# Altium schematic symbol library Inverting buck boost.SchLib: 104 symbols (part 4 of 9)
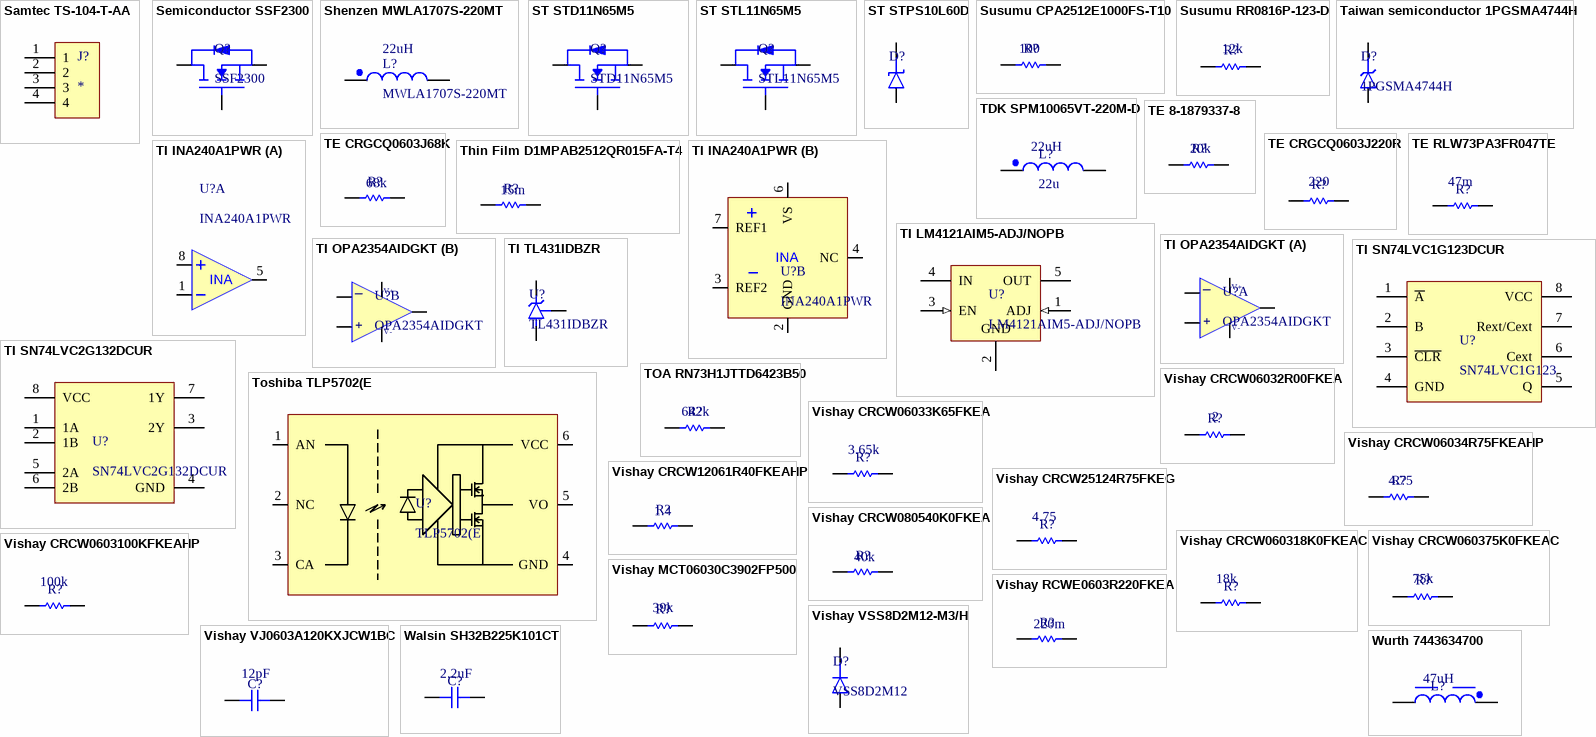
[diagram p5: symbols Samtec TS-104-T-AA to Wurth 7443634700]

## Semiconductor SSF2300
designator Q?, comment SSF2300
Res Thick Film 0603 10 Ohm 1% 0.1W(1/10W) ±200ppm/C Pad SMD T/R; Manufacturer: Yageo Group; Manufacturer Part Number: RC0603FR-0710RL; Power Rating: 100mW; Value: 10Ω; Temperature Coefficient: 200ppm/°C; Voltage Rating: 50V; Working Voltage: 75V; Supplier: DigiKey; Supplier Part Number: 311-10.0HRDKR-ND; RoHS: Compliant; Category: Chip SMD Resistors; Stock: 1344633; Pricing: 1=0,1, 10=0,037, 25=0,0276, 50=0,0226, 100=0,0187, 250=0,01476, 500=0,0125, 1000=0,01075 (USD); Case/Package: 0603; Case Code (Imperial): 0603; Case Code (Metric): 0603; China RoHS: Non-Compliant; Composition: Thick Film; Contact Plating: Tin; Country of Origin: Mainland China, Taiwan; Depth: 800µm; Export Control Classification Number (ECCN) Code: EAR99; Height: 450µm; Harmonized Tariff Schedule (HTS) Code: 8533.21.00.30; Introduction Date: 2004-09-22; Lead Free: Lead Free; Length: 1.6mm; Lifecycle Status: Production; Max Operating Temperature: 155°C; Military Standard: Not; Min Operating Temperature: -55°C; Mounting Technology: Surface Mount; Pins: 2; Number of Terminals: 2; Packaging: Tape and Reel; Radiation Hardening: No; REACH SVHC: Yes; Schedule B: 8533210045, 8533210045|8533210045|8533210045|8533210045|8533210045|8533210045|8533210045|8533210045|8533210045|8533210045|8533210045|8533210045|8533210045|8533210045|8533210045|8533210045|8533210045|8533210045|8533210045|8533210045|8533210045|8533210045|8533210045|85; Termination: SMD/SMT; Tolerance: 1%; Voltage Rating (AC): 50V; Voltage Rating (DC): 50V; Width: 800µm; ComponentLink1URL: https://datasheet.octopart.com:443/RC0603FR-0710RL-Yageo-datasheet-175887523.pdf?src-supplier=IHS; ComponentLink1Description: https://datasheet.octopart.com:443/RC0603FR-0710RL-Yageo-datasheet-175887523.pdf?src-supplier=IHS; ComponentLink2URL: https://datasheet.octopart.com:443/RC0603FR-0710RL-Yageo-datasheet-62067350.pdf?src-supplier=Farnell; ComponentLink2Description: https://datasheet.octopart.com:443/RC0603FR-0710RL-Yageo-datasheet-62067350.pdf?src-supplier=Farnell; ComponentLink3URL: https://datasheet.octopart.com:443/RC0603FR-0710RL-Yageo-datasheet-13691069.pdf?src-supplier=Farnell; ComponentLink3Description: https://datasheet.octopart.com:443/RC0603FR-0710RL-Yageo-datasheet-13691069.pdf?src-supplier=Farnell; ComponentLink4URL: https://datasheet.octopart.com:443/RC0603FR-0710RL-Yageo-datasheet-103092701.pdf?src-supplier=Upverter; ComponentLink4Description: https://datasheet.octopart.com:443/RC0603FR-0710RL-Yageo-datasheet-103092701.pdf?src-supplier=Upverter; ComponentLink5URL: https://datasheet.octopart.com:443/RC0603FR-0710RL-Yageo-datasheet-98239111.pdf?src-supplier=Upverter; ComponentLink5Description: https://datasheet.octopart.com:443/RC0603FR-0710RL-Yageo-datasheet-98239111.pdf?src-supplier=Upverter; ComponentLink6URL: https://datasheet.octopart.com:443/RC0603FR-0710RL-Yageo-datasheet-79472498.pdf?src-supplier=Upverter; ComponentLink6Description: https://datasheet.octopart.com:443/RC0603FR-0710RL-Yageo-datasheet-79472498.pdf?src-supplier=Upverter; ComponentLink7URL: https://datasheet.octopart.com:443/RC0603FR-0710RL-Yageo-datasheet-8328172.pdf?src-supplier=element14+APAC; ComponentLink7Description: https://datasheet.octopart.com:443/RC0603FR-0710RL-Yageo-datasheet-8328172.pdf?src-supplier=element14+APAC; ComponentLink8URL: https://datasheet.octopart.com:443/RC0603FR-0710RL-Yageo-Group-datasheet-176638170.pdf?src-supplier=Future+Electronics; ComponentLink8Description: https://datasheet.octopart.com:443/RC0603FR-0710RL-Yageo-Group-datasheet-176638170.pdf?src-supplier=Future+Electronics; ComponentLink9URL: https://datasheet.octopart.com:443/RC0603FR-0710RL-Yageo-datasheet-164759695.pdf?src-supplier=Future+Electronics; ComponentLink9Description: https://datasheet.octopart.com:443/RC0603FR-0710RL-Yageo-datasheet-164759695.pdf?src-supplier=Future+Electronics; ComponentLink10URL: https://datasheet.octopart.com:443/RC0603FR-0710RL-Yageo-datasheet-137700087.pdf?src-supplier=Future+Electronics; ComponentLink10Description: https://datasheet.octopart.com:443/RC0603FR-0710RL-Yageo-datasheet-137700087.pdf?src-supplier=Future+Electronics; ComponentLink11URL: https://datasheet.octopart.com:443/RC0603FR-0710RL-Yageo-datasheet-27584510.pdf?src-supplier=Future+Electronics; ComponentLink11Description: https://datasheet.octopart.com:443/RC0603FR-0710RL-Yageo-datasheet-27584510.pdf?src-supplier=Future+Electronics; ComponentLink12URL: https://datasheet.octopart.com:443/RC0603FR-0710RL-Yageo-datasheet-15599030.pdf?src-supplier=Future+Electronics; ComponentLink12Description: https://datasheet.octopart.com:443/RC0603FR-0710RL-Yageo-datasheet-15599030.pdf?src-supplier=Future+Electronics; ComponentLink13URL: https://datasheet.octopart.com:443/RC0603FR-0710RL-Yageo-datasheet-12596169.pdf?src-supplier=Future+Electronics; ComponentLink13Description: https://datasheet.octopart.com:443/RC0603FR-0710RL-Yageo-datasheet-12596169.pdf?src-supplier=Future+Electronics; ComponentLink14URL: https://datasheet.octopart.com:443/RC0603FR-0710RL-Yageo-datasheet-8324193.pdf?src-supplier=Future+Electronics; ComponentLink14Description: https://datasheet.octopart.com:443/RC0603FR-0710RL-Yageo-datasheet-8324193.pdf?src-supplier=Future+Electronics; ComponentLink15URL: https://datasheet.octopart.com:443/RC0603FR-0710RL-Yageo-datasheet-34211833.pdf?src-supplier=Newark; ComponentLink15Description: https://datasheet.octopart.com:443/RC0603FR-0710RL-Yageo-datasheet-34211833.pdf?src-supplier=Newark; ComponentLink16URL: https://datasheet.octopart.com/RC0603FR-0710RL-Yageo-datasheet-73766026.pdf; ComponentLink16Description: https://datasheet.octopart.com/RC0603FR-0710RL-Yageo-datasheet-73766026.pdf; ComponentLink17URL: https://datasheet.octopart.com:443/RC0603FR-0710RL-Yageo-datasheet-30459151.pdf?src-supplier=Seeed+Studio; ComponentLink17Description: https://datasheet.octopart.com:443/RC0603FR-0710RL-Yageo-datasheet-30459151.pdf?src-supplier=Seeed+Studio; ComponentLink18URL: https://datasheet.octopart.com:443/RC0603FR-0710RL-Yageo-datasheet-14181472.pdf?src-supplier=iiiC; ComponentLink18Description: https://datasheet.octopart.com:443/RC0603FR-0710RL-Yageo-datasheet-14181472.pdf?src-supplier=iiiC; ComponentLink19URL: https://datasheet.octopart.com:443/RC0603FR-0710RL-Yageo-datasheet-118562.pdf?src-supplier=DigiKey; ComponentLink19Description: https://datasheet.octopart.com:443/RC0603FR-0710RL-Yageo-datasheet-118562.pdf?src-supplier=DigiKey; ComponentLink20URL: http://sigma.octopart.com:80/rohs_statement/Yageo-company-2.pdf?src-supplier=Compliance+Statements; ComponentLink20Description: http://sigma.octopart.com:80/rohs_statement/Yageo-company-2.pdf?src-supplier=Compliance+Statements; ComponentLink21URL: http://sigma.octopart.com:80/conflict_mineral_statement/Yageo-company-3.pdf?src-supplier=Compliance+Statements; ComponentLink21Description: http://sigma.octopart.com:80/conflict_mineral_statement/Yageo-company-3.pdf?src-supplier=Compliance+Statements
footprint SOT-23-3
pins: 1 S, 2 G, 3 D

## Shenzen MWLA1707S-220MT
designator L?, comment MWLA1707S-220MT  Inductance: 22uH
General Purpose Inductor, 22uH, 20%, 1 Element, Wirewound-Core, SMD, 6967; Manufacturer: Sunlord; Max Current Rating: 7A; Number of Circuits: 1; Shielding: Shielded; Test Frequency: 100kHz; DC Resistance (DCR): 26.5mΩ; Supplier: DigiKey; Supplier Part Number: 3442-MWLA1707S-220MTCT-ND; Manufacturer Part Number: MWLA1707S-220MT; Category: Fixed Inductors; Stock: 255; Pricing: 1=1,94, 10=1,595, 100=1,3118 (USD); Height: 7mm; Length: 17.5mm; Lifecycle Status: Production; Max Operating Temperature: 125°C; Min Operating Temperature: -55°C; Number of Terminals: 2; Tolerance: 20%; Width: 17mm
footprint MWLA1707S
pins: 1, 2

## ST STD11N65M5
designator Q?, comment STD11N65M5
N-channel 650 V, 0.43 Ohm typ., 9 A MDmesh M5 Power MOSFET in DPAK package; Manufacturer: STMicroelectronics; Continuous Drain Current (ID): 9A; Drain to Source Breakdown Voltage: 650V; Drain to Source Resistance: 480mΩ; Element Configuration: Single; Gate to Source Voltage (Vgs): 25V; Input Capacitance: 620pF; Max Power Dissipation: 85W; Number of Elements: 1; Value: 480MΩ; Turn-Off Delay Time: 23ns; Supplier: Farnell; Supplier Part Number: STD11N65M5; Manufacturer Part Number: STD11N65M5; RoHS: Compliant; Category: MOSFETs; Stock: 694; Pricing: 100=1,32, 500=1,1, 1000=1,01 (EUR); Case/Package: DPAK; China RoHS: Compliant; Country of Origin: Mainland China; Drain to Source Voltage (Vdss): 650V; Export Control Classification Number (ECCN) Code: EAR99; Height: 2.4mm; Introduction Date: 2012-02-24; Lead Free: Lead Free; Length: 6.6mm; Lifecycle Status: Production; Max Operating Temperature: 150°C; Min Breakdown Voltage: 650V; Min Operating Temperature: -55°C; Mounting Technology: Surface Mount; Pins: 3; Number of Terminals: 2; Packaging: Tape and Reel; Power Dissipation: 85W; Radiation Hardening: No; Rds On Max: 480mΩ; REACH SVHC: Yes; Schedule B: 8541290080, 8541290080|8541290080|8541290080|8541290080|8541290080; Turn-On Delay Time: 23ns; Width: 6.2mm; ComponentLink1URL: https://datasheet.octopart.com:443/STD11N65M5-STMicroelectronics-datasheet-62335092.pdf?src-supplier=STMicroelectronics; ComponentLink1Description: https://datasheet.octopart.com:443/STD11N65M5-STMicroelectronics-datasheet-62335092.pdf?src-supplier=STMicroelectronics; ComponentLink2URL: https://datasheet.octopart.com:443/STD11N65M5-STMicroelectronics-datasheet-11780275.pdf?src-supplier=STMicroelectronics; ComponentLink2Description: https://datasheet.octopart.com:443/STD11N65M5-STMicroelectronics-datasheet-11780275.pdf?src-supplier=STMicroelectronics; ComponentLink3URL: https://datasheet.octopart.com:443/STD11N65M5-STMicroelectronics-datasheet-134531571.pdf?src-supplier=Future+Electronics; ComponentLink3Description: https://datasheet.octopart.com:443/STD11N65M5-STMicroelectronics-datasheet-134531571.pdf?src-supplier=Future+Electronics; ComponentLink4URL: https://datasheet.octopart.com:443/STD11N65M5-STMicroelectronics-datasheet-14897392.pdf?src-supplier=Components+Direct; ComponentLink4Description: https://datasheet.octopart.com:443/STD11N65M5-STMicroelectronics-datasheet-14897392.pdf?src-supplier=Components+Direct
footprint DPAK (1N65M5 STM)
pins: 1 G, 2 D, 3 S

## ST STL11N65M5
designator Q?, comment STL11N65M5
Supplier: Arrow Electronics; Supplier Part Number: STL11N65M5
footprint PowerFLAT™ 5x5
pins: 2 S, 5 D, 10 G

## ST STPS10L60D
designator D?, comment STPS10L60D  (value not drawn)
Rectifier Diode, Schottky, 1 Phase, 1 Element, 10A, 60V V(RRM), Silicon, TO-220AC; Manufacturer: STMicroelectronics; Element Configuration: Single; Forward Voltage: 740mV; Max Forward Surge Current (Ifsm): 220A; Max Junction Temperature (Tj): 150°C; Max Reverse Leakage Current: 350µA; Number of Elements: 1; Polarity: Standard; Supplier: Future Electronics; Supplier Part Number: STPS10L60D; Manufacturer Part Number: STPS10L60D; RoHS: Compliant; Category: Schottky Diodes; Stock: 200; Pricing: 100=0,22, 250=0,215, 1000=0,21, 2500=0,205, 6250=0,2 (USD); Average Rectified Current: 10A; Case/Package: TO-220-2; China RoHS: Non-Compliant; Contact Plating: Tin; Current Rating: 10A; Forward Current: 10A; Lead Free: Lead Free; Lifecycle Status: Production; Max Operating Temperature: 150°C; Max Output current: 10A; Max Repetitive Reverse Voltage (Vrrm): 60V; Max Reverse Voltage (DC): 60V; Max Surge Current: 220A; Min Operating Temperature: -65°C; Mounting Technology: Through Hole; Pins: 2; Number of Terminals: 2; Output Current: 10A; Peak Non-Repetitive Surge Current: 220A; Peak Reverse Current: 350µA; Radiation Hardening: No; REACH SVHC: No; Reverse Standoff Voltage: 60V; Voltage Rating (DC): 60V; ComponentLink1URL: https://datasheet.octopart.com:443/STPS10L60D-STMicroelectronics-datasheet-13237.pdf?src-supplier=Factory+Futures; ComponentLink1Description: https://datasheet.octopart.com:443/STPS10L60D-STMicroelectronics-datasheet-13237.pdf?src-supplier=Factory+Futures; ComponentLink2URL: https://datasheet.octopart.com:443/STPS10L60D-STMicroelectronics-datasheet-12545639.pdf?src-supplier=Newark; ComponentLink2Description: https://datasheet.octopart.com:443/STPS10L60D-STMicroelectronics-datasheet-12545639.pdf?src-supplier=Newark; ComponentLink3URL: https://datasheet.octopart.com:443/STPS10L60D-STMicroelectronics-datasheet-134532140.pdf?src-supplier=Newark; ComponentLink3Description: https://datasheet.octopart.com:443/STPS10L60D-STMicroelectronics-datasheet-134532140.pdf?src-supplier=Newark; ComponentLink4URL: https://datasheet.octopart.com:443/STPS10L60D-STMicroelectronics-datasheet-14054965.pdf?src-supplier=iiiC; ComponentLink4Description: https://datasheet.octopart.com:443/STPS10L60D-STMicroelectronics-datasheet-14054965.pdf?src-supplier=iiiC
footprint TO-220
pins: 1 K, 2 A

## Susumu CPA2512E1000FS-T10
designator R?, comment Resistance: 100  (hidden comment: CPA2512E1000FS-T10)
RES SMD 100 OHM 1% 16W 2512 / 100 Ohms ±1% 16W Chip Resistor 2512 (6432 Metric) Moisture Resistant Thin Film; Manufacturer: Susumu; Temperature Coefficient: 25ppm/°C; Supplier: DigiKey; Supplier Part Number: CPA25E100CT-ND; Manufacturer Part Number: CPA2512E1000FS-T10; RoHS: Compliant; Category: Chip SMD Resistors; Stock: 38476; Pricing: 1=2,16, 10=1,786, 25=1,6584, 50=1,57, 100=1,4894, 250=1,39452, 500=1,33128 (USD); Case/Package: 2512; Case Code (Imperial): 2512; Case Code (Metric): 6432; Composition: Thin Film; Country of Origin: Japan, Mainland China; Export Control Classification Number (ECCN) Code: EAR99; Features: Moisture Resistant; Height: 700µm; Introduction Date: 2008-09-12; Lead Free: Lead Free; Length: 6.3mm; Lifecycle Status: Production; Max Operating Temperature: 155°C; Max Power Dissipation: 16W; Min Operating Temperature: -55°C; Mounting Technology: Surface Mount; Number of Terminals: 2; Number of Terminations: 2; Packaging: Digi-Reel®; Power Rating: 16W; REACH SVHC: Yes; Tolerance: 1%; Width: 3.2mm; ComponentLink1URL: https://datasheet.octopart.com:443/CPA2512E1000FS-T10-Susumu-datasheet-113432870.pdf?src-supplier=IHS; ComponentLink1Description: https://datasheet.octopart.com:443/CPA2512E1000FS-T10-Susumu-datasheet-113432870.pdf?src-supplier=IHS; ComponentLink2URL: https://datasheet.octopart.com:443/CPA2512E1000FS-T10-Susumu-datasheet-17728680.pdf?src-supplier=Upverter; ComponentLink2Description: https://datasheet.octopart.com:443/CPA2512E1000FS-T10-Susumu-datasheet-17728680.pdf?src-supplier=Upverter; ComponentLink3URL: https://datasheet.octopart.com:443/CPA2512E1000FS-T10-Susumu-datasheet-12553808.pdf?src-supplier=Future+Electronics; ComponentLink3Description: https://datasheet.octopart.com:443/CPA2512E1000FS-T10-Susumu-datasheet-12553808.pdf?src-supplier=Future+Electronics
footprint res_2512
pins: 1, 2

## Susumu RR0816P-123-D
designator R?, comment Resistance: 12k  (hidden comment: RR0816P-123-D)
Fixed Resistor, Thin Film, 0.0625W, 12000ohm, 75V, 0.5% +/-Tol, 25ppm/Cel, Surface Mount, 0603; Manufacturer: Susumu; Power Rating: 62.5mW; Temperature Coefficient: 25ppm/°C; Supplier: Future Electronics; Supplier Part Number: RR0816P-123-D; Manufacturer Part Number: RR0816P-123-D; RoHS: Compliant; Category: Chip SMD Resistors; Stock: 30000; Pricing: 5000=0,0133, 15000=0,013, 25000=0,0129, 75000=0,0126, 125000=0,0123 (USD); Case/Package: 0603; Case Code (Imperial): 0603; Composition: Thin Film; Country of Origin: Japan; Depth: 800µm; Export Control Classification Number (ECCN) Code: EAR99; Height: 400µm; Harmonized Tariff Schedule (HTS) Code: 8533.21.00.30; Introduction Date: 2001-02-26; Lead Free: Lead Free; Length: 1.6mm; Lifecycle Status: NRND; Max Operating Temperature: 125°C; Min Operating Temperature: -55°C; Mounting Technology: Surface Mount; Pins: 2; Number of Terminals: 2; Packaging: Tape & Reel; REACH SVHC: No; Termination: SMD/SMT; Tolerance: 0.5%; Voltage Rating: 75V; Voltage Rating (DC): 75V; Width: 800µm; Working Voltage: 75V; ComponentLink1URL: https://datasheet.octopart.com:443/RR0816P-123-D-Susumu-datasheet-159770900.pdf?src-supplier=IHS; ComponentLink1Description: https://datasheet.octopart.com:443/RR0816P-123-D-Susumu-datasheet-159770900.pdf?src-supplier=IHS; ComponentLink2URL: https://datasheet.octopart.com:443/RR0816P-123-D-Susumu-datasheet-5302462.pdf?src-supplier=Newark; ComponentLink2Description: https://datasheet.octopart.com:443/RR0816P-123-D-Susumu-datasheet-5302462.pdf?src-supplier=Newark; ComponentLink3URL: https://datasheet.octopart.com:443/RR0816P-123-D-Susumu-datasheet-78834971.pdf?src-supplier=Newark; ComponentLink3Description: https://datasheet.octopart.com:443/RR0816P-123-D-Susumu-datasheet-78834971.pdf?src-supplier=Newark; ComponentLink4URL: https://datasheet.octopart.com:443/RR0816P-123-D-Susumu-datasheet-773.pdf?src-supplier=Newark; ComponentLink4Description: https://datasheet.octopart.com:443/RR0816P-123-D-Susumu-datasheet-773.pdf?src-supplier=Newark; ComponentLink5URL: https://datasheet.octopart.com:443/RR0816P-123-D-Susumu-datasheet-62069792.pdf?src-supplier=Future+Electronics; ComponentLink5Description: https://datasheet.octopart.com:443/RR0816P-123-D-Susumu-datasheet-62069792.pdf?src-supplier=Future+Electronics; ComponentLink6URL: https://datasheet.octopart.com:443/RR0816P-123-D-Susumu-datasheet-11047391.pdf?src-supplier=Future+Electronics; ComponentLink6Description: https://datasheet.octopart.com:443/RR0816P-123-D-Susumu-datasheet-11047391.pdf?src-supplier=Future+Electronics
footprint Res_0603
pins: 1, 2

## Taiwan semiconductor 1PGSMA4744H
designator D?, comment 1PGSMA4744H
Zener Diode, 15V V(Z), 5%, 1W, Silicon, Unidirectional, DO-214AC; Manufacturer: Taiwan Semiconductor; Impedance: 14Ω; Number of Elements: 1; Peak Reverse Current: 1µA; Reverse Standoff Voltage: 11.4V; Zener Current: 17mA; Supplier: DigiKey; Supplier Part Number: 1801-1PGSMA4744HTR-ND; Manufacturer Part Number: 1PGSMA4744H; RoHS: Compliant; Category: Zener Diodes; Stock: 7500; Pricing: 7500=0,09278, 15000=0,08793 (USD); China RoHS: Non-Compliant; Composition: Zener; Country of Origin: Mainland China, Taiwan; Export Control Classification Number (ECCN) Code: EAR99; Harmonized Tariff Schedule (HTS) Code: 8541.10.00.50; Introduction Date: 2021-03-02; Lifecycle Status: Production; Max Operating Temperature: 175°C; Max Power Dissipation: 1W; Min Operating Temperature: -55°C; Number of Terminals: 2; Polarity: Unidirectional; Ratings: AEC-Q101; REACH SVHC: No; Reference Voltage: 15V; Voltage Tolerance: 5%; ComponentLink1URL: https://datasheet.octopart.com:443/1PGSMA4744H-Taiwan-Semiconductor-datasheet-181255874.pdf?src-supplier=IHS; ComponentLink1Description: https://datasheet.octopart.com:443/1PGSMA4744H-Taiwan-Semiconductor-datasheet-181255874.pdf?src-supplier=IHS
footprint DO-214AC
pins: A, C

## TDK SPM10065VT-220M-D
designator L?, comment 22u  Inductance: 22uH
Inductances de puissance - CMS 22uH 20% 43.3mOhm AEC-Q200; Manufacturer: TDK; Manufacturer Part Number: SPM10065VT-220M-D
footprint ind (SPM10065VT-220M-D)
pins: 1, 2

## TE 8-1879337-8
designator R?, comment value 20k  (hidden comment: CPF0603F20KC1)
63mW Thin Film Resistor ±50ppm/℃ ±1% 20kΩ 0603 Chip Resistor - Surface Mount ROHS; Manufacturer: TE Connectivity; Manufacturer Part Number: 8-1879337-8; Manufacturer Lifecycle Status: ACTIVE; Number of Resistors: 1; Operating Supply Voltage: 50V; Temperature Coefficient: 50ppm/°C; Supplier: Farnell; Supplier Part Number: CPF0603F20KC1; RoHS: Compliant; Category: Chip SMD Resistors; Stock: 20337; Pricing: 1=0,0751, 50=0,0233, 100=0,0218, 250=0,0205, 500=0,0197, 1000=0,0184 (GBP); Case/Package: 0603; Case Code (Imperial): 0603; Case Code (Metric): 1608; China RoHS: Compliant; Composition: Thin Film; Depth: 800µm; Export Control Classification Number (ECCN) Code: EAR99; ELV: Compliant; Height: 450µm; Harmonized Tariff Schedule (HTS) Code: 8533.21.00.30; Introduction Date: 2011-07-28; Length: 1.55mm; Lifecycle Status: Production; Max Operating Temperature: 155°C; Max Power Dissipation: 63mW; Military Standard: Not; Min Operating Temperature: -55°C; Mounting Technology: Surface Mount; Pins: 2; Number of Terminals: 2; Number of Terminations: 2; Power Rating: 63mW; Radiation Hardening: No; REACH SVHC: Yes; Schedule B: 8533210045, 8533210045|8533210045, 8533210045|8533210045|8533210045, 8533210045|8533210045|8533210045|8533210045; Termination: Solder; Tolerance: 1%; Voltage Rating: 50V; Voltage Rating (DC): 50V; Weight: 2.012816mg; Width: 800µm; Working Voltage: 50V; ComponentLink1URL: https://datasheet.octopart.com:443/8-1879337-8-TE-Connectivity-datasheet-158231717.pdf?src-supplier=IHS; ComponentLink1Description: https://datasheet.octopart.com:443/8-1879337-8-TE-Connectivity-datasheet-158231717.pdf?src-supplier=IHS; ComponentLink2URL: https://datasheet.octopart.com:443/CPF0603F20KC1-Tyco-Electronics-datasheet-11120073.pdf?src-supplier=TE+Connectivity; ComponentLink2Description: https://datasheet.octopart.com:443/CPF0603F20KC1-Tyco-Electronics-datasheet-11120073.pdf?src-supplier=TE+Connectivity; ComponentLink3URL: https://datasheet.octopart.com:443/8-1879337-8-TE-Connectivity-datasheet-78339072.pdf?src-supplier=TE+Connectivity; ComponentLink3Description: https://datasheet.octopart.com:443/8-1879337-8-TE-Connectivity-datasheet-78339072.pdf?src-supplier=TE+Connectivity; ComponentLink4URL: https://datasheet.octopart.com:443/CPF0603F20KC1-Tyco-Electronics-datasheet-12510971.pdf?src-supplier=TE+Connectivity; ComponentLink4Description: https://datasheet.octopart.com:443/CPF0603F20KC1-Tyco-Electronics-datasheet-12510971.pdf?src-supplier=TE+Connectivity; ComponentLink5URL: https://datasheet.octopart.com:443/CPF0603F20KC1-Tyco-Electronics-datasheet-11120060.pdf?src-supplier=Newark; ComponentLink5Description: https://datasheet.octopart.com:443/CPF0603F20KC1-Tyco-Electronics-datasheet-11120060.pdf?src-supplier=Newark; ComponentLink6URL: https://datasheet.octopart.com:443/CPF0603F20KC1-Tyco-Electronics-datasheet-5303618.pdf?src-supplier=Newark; ComponentLink6Description: https://datasheet.octopart.com:443/CPF0603F20KC1-Tyco-Electronics-datasheet-5303618.pdf?src-supplier=Newark; ComponentLink7URL: https://datasheet.octopart.com:443/CPF0603F20KC1-Tyco-Electronics-datasheet-5299551.pdf?src-supplier=Newark; ComponentLink7Description: https://datasheet.octopart.com:443/CPF0603F20KC1-Tyco-Electronics-datasheet-5299551.pdf?src-supplier=Newark; ComponentLink8URL: https://datasheet.octopart.com:443/CPF0603F20KC1-Holsworthy-datasheet-11120284.pdf?src-supplier=JRH+Electronics; ComponentLink8Description: https://datasheet.octopart.com:443/CPF0603F20KC1-Holsworthy-datasheet-11120284.pdf?src-supplier=JRH+Electronics; ComponentLink9URL: https://datasheet.octopart.com:443/CPF0603F20KC1-TE-Connectivity---Neohm-datasheet-193183183.pdf?src-supplier=JRH+Electronics; ComponentLink9Description: https://datasheet.octopart.com:443/CPF0603F20KC1-TE-Connectivity---Neohm-datasheet-193183183.pdf?src-supplier=JRH+Electronics; ComponentLink10URL: https://datasheet.octopart.com:443/CPF0603F20KC1-Neohm-datasheet-140860410.pdf?src-supplier=JRH+Electronics; ComponentLink10Description: https://datasheet.octopart.com:443/CPF0603F20KC1-Neohm-datasheet-140860410.pdf?src-supplier=JRH+Electronics; ComponentLink11URL: https://datasheet.octopart.com:443/8-1879337-8-TE-Connectivity---AMP-datasheet-189108484.pdf?src-supplier=JRH+Electronics; ComponentLink11Description: https://datasheet.octopart.com:443/8-1879337-8-TE-Connectivity---AMP-datasheet-189108484.pdf?src-supplier=JRH+Electronics; ComponentLink12URL: https://datasheet.octopart.com:443/CPF0603F20KC1-TE-Connectivity-datasheet-136771900.pdf?src-supplier=Electro+Sonic; ComponentLink12Description: https://datasheet.octopart.com:443/CPF0603F20KC1-TE-Connectivity-datasheet-136771900.pdf?src-supplier=Electro+Sonic; ComponentLink13URL: https://datasheet.octopart.com:443/8-1879337-8-TE-Connectivity---AMP-datasheet-187588164.pdf?src-supplier=Electro+Sonic; ComponentLink13Description: https://datasheet.octopart.com:443/8-1879337-8-TE-Connectivity---AMP-datasheet-187588164.pdf?src-supplier=Electro+Sonic; ComponentLink14URL: https://datasheet.octopart.com:443/CPF0603F20KC1-TE-Connectivity-datasheet-78339038.pdf?src-supplier=Master+Electronics; ComponentLink14Description: https://datasheet.octopart.com:443/CPF0603F20KC1-TE-Connectivity-datasheet-78339038.pdf?src-supplier=Master+Electronics; ComponentLink15URL: https://datasheet.octopart.com:443/CPF0603F20KC1-TE-Connectivity-datasheet-62056503.pdf?src-supplier=Master+Electronics; ComponentLink15Description: https://datasheet.octopart.com:443/CPF0603F20KC1-TE-Connectivity-datasheet-62056503.pdf?src-supplier=Master+Electronics; ComponentLink16URL: https://datasheet.octopart.com:443/CPF0603F20KC1-TE-Connectivity-datasheet-62316152.pdf?src-supplier=Farnell; ComponentLink16Description: https://datasheet.octopart.com:443/CPF0603F20KC1-TE-Connectivity-datasheet-62316152.pdf?src-supplier=Farnell; ComponentLink17URL: https://datasheet.octopart.com:443/8-1879337-8-AMP-datasheet-17911634.pdf?src-supplier=Farnell; ComponentLink17Description: https://datasheet.octopart.com:443/8-1879337-8-AMP-datasheet-17911634.pdf?src-supplier=Farnell; ComponentLink18URL: https://datasheet.octopart.com:443/8-1879337-8-TE-Connectivity-datasheet-145359806.pdf?src-supplier=RS+(Formerly+Allied+Electronics); ComponentLink18Description: https://datasheet.octopart.com:443/8-1879337-8-TE-Connectivity-datasheet-145359806.pdf?src-supplier=RS+(Formerly+Allied+Electronics); ComponentLink19URL: http://sigma.octopart.com:80/14741118/rohs_certificate/Holsworthy-CPF0603F20KC1.pdf?src-supplier=Compliance+Statements; ComponentLink19Description: http://sigma.octopart.com:80/14741118/rohs_certificate/Holsworthy-CPF0603F20KC1.pdf?src-supplier=Compliance+Statements
footprint res_0603
pins: 1, 2

## TE CRGCQ0603J68K
designator R?, comment Resistance: 68k  (hidden comment: CRGCQ0603J68K)
Res Thick Film 0603 68K Ohm 5% 0.1W(1/10W) ±100ppm/C Pad SMD Automotive T/R; Manufacturer: TE Connectivity; Manufacturer Lifecycle Status: ACTIVE; Operating Supply Voltage: 75V; Power Rating: 100mW; Temperature Coefficient: 100ppm/°C; Supplier: Farnell; Supplier Part Number: CRGCQ0603J68K; Manufacturer Part Number: CRGCQ0603J68K; RoHS: Compliant; Category: Chip SMD Resistors; Stock: 5233; Pricing: 10=0,010, 250=0,0053, 1000=0,0035, 5000=0,003, 12000=0,0023, 24000=0,0022 (GBP); Ambient Temperature Range High: 70°C; Case/Package: 0603; China RoHS: Non-Compliant; Composition: Thick Film; Export Control Classification Number (ECCN) Code: EAR99; Height: 450µm; Harmonized Tariff Schedule (HTS) Code: 8533.21.00.30; Introduction Date: 2018-03-13; Length: 1.6mm; Lifecycle Status: Production; Max Operating Temperature: 155°C; Min Operating Temperature: -55°C; Mounting Technology: Surface Mount; Number of Terminals: 2; Packaging: Cut Tape; Ratings: AEC-Q200; REACH SVHC: Yes; Schedule B: 8533210045; Tolerance: 5%; Voltage Rating: 75V; Voltage Rating (DC): 75V; Width: 800µm; Working Voltage: 75V; ComponentLink1URL: https://datasheet.octopart.com:443/CRGCQ0603J68K-TE-Connectivity-datasheet-114679081.pdf?src-supplier=Master+Electronics; ComponentLink1Description: https://datasheet.octopart.com:443/CRGCQ0603J68K-TE-Connectivity-datasheet-114679081.pdf?src-supplier=Master+Electronics; ComponentLink2URL: https://sigma.octopart.com:443/114692702/technical_drawing/TE-Connectivity-CRGCQ0603J68K.pdf?src-supplier=Sager+Electronics; ComponentLink2Description: https://sigma.octopart.com:443/114692702/technical_drawing/TE-Connectivity-CRGCQ0603J68K.pdf?src-supplier=Sager+Electronics
footprint res_0603
pins: 1, 2

## TE CRGCQ0603J220R
designator R?, comment Resistance: 220  (hidden comment: CRGCQ0603J220R)
Res Thick Film 0603 220 Ohm 5% 0.1W(1/10W) ±100ppm/C Pad SMD Automotive T/R; Manufacturer: TE Connectivity; Manufacturer Lifecycle Status: ACTIVE; Operating Supply Voltage: 75V; Power Rating: 100mW; Temperature Coefficient: 100ppm/°C; Supplier: Farnell; Supplier Part Number: CRGCQ0603J220R; Manufacturer Part Number: CRGCQ0603J220R; RoHS: Compliant; Category: Chip SMD Resistors; Stock: 13500; Pricing: 10=0,010, 250=0,0053, 1000=0,0035, 5000=0,003, 10000=0,0023, 20000=0,0022 (GBP); Ambient Temperature Range High: 70°C; Case/Package: 0603; China RoHS: Non-Compliant; Composition: Thick Film; Export Control Classification Number (ECCN) Code: EAR99; Height: 450µm; Harmonized Tariff Schedule (HTS) Code: 8533.21.00.30; Introduction Date: 2018-03-13; Length: 1.6mm; Lifecycle Status: Production; Max Operating Temperature: 155°C; Min Operating Temperature: -55°C; Mounting Technology: Surface Mount; Number of Terminals: 2; Packaging: Cut Tape; Ratings: AEC-Q200; REACH SVHC: Yes; Schedule B: 8533210025, 8533210025|8533210025|8533210025|8533210025|8533210025, 8533210045; Tolerance: 5%; Voltage Rating: 75V; Voltage Rating (DC): 75V; Width: 800µm; Working Voltage: 75V; ComponentLink1URL: https://datasheet.octopart.com:443/CRGCQ0603J220R-TE-Connectivity-datasheet-114679081.pdf?src-supplier=Master+Electronics; ComponentLink1Description: https://datasheet.octopart.com:443/CRGCQ0603J220R-TE-Connectivity-datasheet-114679081.pdf?src-supplier=Master+Electronics; ComponentLink2URL: https://datasheet.octopart.com:443/CRGCQ0603J220R-TE-Connectivity-datasheet-179146981.pdf?src-supplier=IHS; ComponentLink2Description: https://datasheet.octopart.com:443/CRGCQ0603J220R-TE-Connectivity-datasheet-179146981.pdf?src-supplier=IHS; ComponentLink3URL: https://sigma.octopart.com:443/114692702/technical_drawing/TE-Connectivity-CRGCQ0603J220R.pdf?src-supplier=Sager+Electronics; ComponentLink3Description: https://sigma.octopart.com:443/114692702/technical_drawing/TE-Connectivity-CRGCQ0603J220R.pdf?src-supplier=Sager+Electronics
footprint res_0603
pins: 1, 2

## TE RLW73PA3FR047TE
designator R?, comment Resistance: 47m  (hidden comment: RLW73PA3FR047TE)
Fixed Resistor, Metal Glaze/thick Film, 3W, 1% +/-Tol, 200ppm/Cel, 1225; Manufacturer: TE Connectivity; Manufacturer Lifecycle Status: ACTIVE; Temperature Coefficient: 200ppm/°C; Supplier: DigiKey; Supplier Part Number: 1712-RLW73PA3FR047TECT-ND; Manufacturer Part Number: RLW73PA3FR047TE; RoHS: Compliant; Category: Chip SMD Resistors; Stock: 11863; Pricing: 1=0,99, 10=0,644, 25=0,5504, 50=0,4916, 100=0,4417, 250=0,38696, 500=0,3527, 1000=0,32356 (USD); Case/Package: 1225; China RoHS: Compliant; Composition: Thick Film; Export Control Classification Number (ECCN) Code: EAR99; Introduction Date: 2025-09-27; Lifecycle Status: Production; Max Operating Temperature: 155°C; Min Operating Temperature: -55°C; Number of Terminals: 2; Power Rating: 3W; REACH SVHC: Yes; Tolerance: 1%; ComponentLink1URL: https://datasheet.octopart.com:443/RLW73PA3FR047TE-TE-Connectivity-datasheet-184924788.pdf?src-supplier=IHS; ComponentLink1Description: https://datasheet.octopart.com:443/RLW73PA3FR047TE-TE-Connectivity-datasheet-184924788.pdf?src-supplier=IHS; ComponentLink2URL: https://datasheet.octopart.com:443/RLW73PA3FR047TE-TE-Connectivity-datasheet-166578570.pdf?src-supplier=Electro+Sonic; ComponentLink2Description: https://datasheet.octopart.com:443/RLW73PA3FR047TE-TE-Connectivity-datasheet-166578570.pdf?src-supplier=Electro+Sonic; ComponentLink3URL: https://datasheet.octopart.com:443/RLW73PA3FR047TE-TE-Connectivity-datasheet-166578571.pdf?src-supplier=TE+Connectivity; ComponentLink3Description: https://datasheet.octopart.com:443/RLW73PA3FR047TE-TE-Connectivity-datasheet-166578571.pdf?src-supplier=TE+Connectivity; ComponentLink4URL: https://sigma.octopart.com:443/166578626/technical_drawing/TE-Connectivity-RLW73PA3FR047TE.pdf?src-supplier=TE+Connectivity; ComponentLink4Description: https://sigma.octopart.com:443/166578626/technical_drawing/TE-Connectivity-RLW73PA3FR047TE.pdf?src-supplier=TE+Connectivity
footprint RES_1225
pins: 1, 2

## Thin Film D1MPAB2512QR015FA-T4
designator R?, comment Resistance: 15m  (hidden comment: D1MPAB2512QR015FA-T4)
Res 0.015 Ohm 1% 2W 2512; Manufacturer: Thin Film Tech; Supplier: DigiKey; Supplier Part Number: 4463-D1MPAB2512QR015FA-T4TR-ND; Manufacturer Part Number: D1MPAB2512QR015FA-T4; Category: Chip SMD Resistors; Stock: 8740; Pricing: 4000=0,12012, 8000=0,11147, 12000=0,10703, 20000=0,10201, 28000=0,09902, 40000=0,09609 (USD)
footprint res_2512
pins: 1, 2

## TI INA240A1PWR
designator U?, comment INA240A1PWR
Op Amp Single Zero Drift Amplifier 5.5V 8-Pin TSSOP T/R; Manufacturer: Texas Instruments; Manufacturer Lifecycle Status: ACTIVE; Bandwidth: 400kHz; Input Bias Current: 90µA; Input Offset Voltage (Vos): 5µV; Max Junction Temperature (Tj): 150°C; Min Supply Voltage: 2.7V; Nominal Supply Current: 1.8mA; Number of Channels: 1; Supplier: Arrow Electronics; Supplier Part Number: INA240A1PWR; Manufacturer Part Number: INA240A1PWR; RoHS: Compliant; Category: Amplifiers - Op Amps, Buffer, Instrumentation; Stock: 449; Pricing: 1=3,1221, 10=2,403, 25=2,2062, 100=1,9491, 250=1,84 (USD); Ambient Temperature Range High: 125°C; Case/Package: TSSOP; Height: 1.2mm; Lead Free: Lead Free; Length: 3mm; Lifecycle Status: Production; Max Operating Temperature: 125°C; Max Supply Voltage: 5.5V; Min Operating Temperature: -40°C; Pins: 8; Packaging: Cut Tape; Schedule B: 8542390000, 8542390000|8542390000|8542390000|8542390000|8542390000; Thickness: 1mm; Width: 4.4mm; ComponentLink1URL: https://octopart.com:443/opatz8j6/c1?t=6b5ds5zphu4iqUhGNAPiVHzmQf_HL7e1E5UT2beWP4N2AUke_jOvonAQg0R4M0fKF8_rOW3PQdhUTq9RbFr9x0koj0vt9WEXvQIr2Xb8W6mrYAbRTeGV92QdBvy7W47PufrnRYDulXaXNo6SzTOmflcuzpg__6qv2Cnz6zhuL4qfO7rFJ3GiUIC-sSgXLYJxZFQl6eX-9KFvOiRir4o1IB0ufZchFYOXq5pnhEqDmivBzqZyEXrKsef3SNQzWVhfEPUQ_HYUNfeqlLpMriLHn-U6iJiVIypTpS419iyJOhV020lbUEaR7jMQnHtQpCB4MuonRBeDH0zcF8XPK3nYA9RAaNVtgVJQ_IBr8E6FLEFkoip-xrFWLKqSqo7VXkO8ZHfHXQ&src-supplier=Texas+Instruments; ComponentLink1Description: https://octopart.com:443/opatz8j6/c1?t=6b5ds5zphu4iqUhGNAPiVHzmQf_HL7e1E5UT2beWP4N2AUke_jOvonAQg0R4M0fKF8_rOW3PQdhUTq9RbFr9x0koj0vt9WEXvQIr2Xb8W6mrYAbRTeGV92QdBvy7W47PufrnRYDulXaXNo6SzTOmflcuzpg__6qv2Cnz6zhuL4qfO7rFJ3GiUIC-sSgXLYJxZFQl6eX-9KFvOiRir4o1IB0ufZchFYOXq5pnhEqDmivBzqZyEXrKsef3SNQzWVhfEPUQ_HYUNfeqlLpMriLHn-U6iJiVIypTpS419iyJOhV020lbUEaR7jMQnHtQpCB4MuonRBeDH0zcF8XPK3nYA9RAaNVtgVJQ_IBr8E6FLEFkoip-xrFWLKqSqo7VXkO8ZHfHXQ&src-supplier=Texas+Instruments; ComponentLink2URL: https://sigma.octopart.com:443/49250270/technical_drawing/Texas-Instruments-INA240A1PWR.pdf?src-supplier=Texas+Instruments; ComponentLink2Description: https://sigma.octopart.com:443/49250270/technical_drawing/Texas-Instruments-INA240A1PWR.pdf?src-supplier=Texas+Instruments; ComponentLink3URL: https://datasheet.octopart.com:443/INA240A1PWR-Texas-Instruments-datasheet-100480378.pdf?src-supplier=Newark; ComponentLink3Description: https://datasheet.octopart.com:443/INA240A1PWR-Texas-Instruments-datasheet-100480378.pdf?src-supplier=Newark; ComponentLink4URL: https://datasheet.octopart.com:443/INA240A1PWR-Texas-Instruments-datasheet-68439366.pdf?src-supplier=element14+APAC; ComponentLink4Description: https://datasheet.octopart.com:443/INA240A1PWR-Texas-Instruments-datasheet-68439366.pdf?src-supplier=element14+APAC; ComponentLink5URL: https://datasheet.octopart.com:443/INA240A1PWR-Texas-Instruments-datasheet-165803933.pdf?src-supplier=LCSC; ComponentLink5Description: https://datasheet.octopart.com:443/INA240A1PWR-Texas-Instruments-datasheet-165803933.pdf?src-supplier=LCSC; ComponentLink6URL: https://datasheet.octopart.com:443/INA240A1PWR-Texas-Instruments-datasheet-160706886.pdf?src-supplier=LCSC; ComponentLink6Description: https://datasheet.octopart.com:443/INA240A1PWR-Texas-Instruments-datasheet-160706886.pdf?src-supplier=LCSC; ComponentLink7URL: https://datasheet.octopart.com:443/INA240A1PWR-Texas-Instruments-datasheet-147851276.pdf?src-supplier=SHENGYU+ELECTRONICS; ComponentLink7Description: https://datasheet.octopart.com:443/INA240A1PWR-Texas-Instruments-datasheet-147851276.pdf?src-supplier=SHENGYU+ELECTRONICS; ComponentLink8URL: https://datasheet.octopart.com:443/INA240A1PWR-Texas-Instruments-datasheet-140571434.pdf?src-supplier=Arrow.cn; ComponentLink8Description: https://datasheet.octopart.com:443/INA240A1PWR-Texas-Instruments-datasheet-140571434.pdf?src-supplier=Arrow.cn; ComponentLink9URL: http://sigma.octopart.com:80/reach_statement/Texas-Instruments-company-64.pdf?src-supplier=Compliance+Statements; ComponentLink9Description: http://sigma.octopart.com:80/reach_statement/Texas-Instruments-company-64.pdf?src-supplier=Compliance+Statements; ComponentLink10URL: http://sigma.octopart.com:80/conflict_mineral_statement/Texas-Instruments-company-63.pdf?src-supplier=Compliance+Statements; ComponentLink10Description: http://sigma.octopart.com:80/conflict_mineral_statement/Texas-Instruments-company-63.pdf?src-supplier=Compliance+Statements
footprint SOIC
part A pins: 1 IN-, 5 OUT, 8 IN+
part B pins: 2 GND, 3 REF2, 4 NC, 6 VS, 7 REF1
part A text: INA
part B text: INA

## TI LM4121AIM5-ADJ/NOPB
designator U?, comment LM4121AIM5-ADJ/NOPB
V-Ref Adjustable 1.214V to 1.218V 5mA 5-Pin SOT-23 T/R; Manufacturer: Texas Instruments; Manufacturer Lifecycle Status: ACTIVE; Dropout Voltage: 250mV; Max Supply Voltage: 14V; Max Power Dissipation: 350mW; Min Input Voltage: 1.8V; Nominal Supply Current: 160µA; Number of Channels: 1; Quiescent Current: 275µA; Reference Type: Adjustable, Series; Reference Voltage: 1.216V; Temperature Coefficient: 50ppm/°C; Tolerance: 0.2%; Supplier: DigiKey; Supplier Part Number: LM4121AIM5-ADJ/NOPBCT-ND; Manufacturer Part Number: LM4121AIM5-ADJ/NOPB; RoHS: Compliant; Category: Voltage References; Stock: 5328; Pricing: 1=3,77, 10=2,841, 25=2,6084, 100=2,3532, 250=2,23148, 500=2,21238 (USD); Case/Package: SOT-23; Height: 1.45mm; Length: 2.9mm; Lifecycle Status: Production; Max Operating Temperature: 85°C; Max Output current: 5mA; Max Output Voltage: 1.218V; Min Operating Temperature: -40°C; Min Output Voltage: 1.214V; Mounting Technology: Surface Mount; Pins: 5; Output Current: 5mA; Output Voltage: 1.218V; Packaging: Cut Tape; Radiation Hardening: No; REACH SVHC: No; Schedule B: 8542390000; Termination: SMD/SMT; Thickness: 1.2mm; Width: 1.6mm; ComponentLink1URL: https://sigma.octopart.com:443/177332311/technical_drawing/Texas-Instruments-LM4121AIM5-ADJ-NOPB.pdf?src-supplier=Texas+Instruments; ComponentLink1Description: https://sigma.octopart.com:443/177332311/technical_drawing/Texas-Instruments-LM4121AIM5-ADJ-NOPB.pdf?src-supplier=Texas+Instruments; ComponentLink2URL: https://octopart.com:443/opatz8j6/c1?t=Uqlvhw3r5UNVskgnFtPwbjGJjJlK3X1B1fSbI2QEnI-Np4OkcA76HJ3IuJWKhKHtlQ-3erMHexCWtvY8K7sxcXbMJzxGcNf4-0lbMrHNPNKcSVcf_HRDu_BgKirhdY5pR037YaS4xAp4W468OawEFMNydzYVYSpPXP_Azdaj40jXJAWlvghlxuApHv7n7KwlgdMCfLDHoIBUa_S80HxuD919IwpoO42cD3TF7PpdkAVR8KdunTbgTyJZZrfg6JGyV4fcnKnVlcMlFQCxYdfv5NmroBnmfAYBG7LCJcCUqSuFnahvYVbcehvvT1xAzw6Eu2VpO2ERRggFY7KBQT638zJQavwchc799vrItG-b0ZJRVVqR7xvboE-Mkmx4Y-UFvvLhqA&src-supplier=Texas+Instruments; ComponentLink2Description: https://octopart.com:443/opatz8j6/c1?t=Uqlvhw3r5UNVskgnFtPwbjGJjJlK3X1B1fSbI2QEnI-Np4OkcA76HJ3IuJWKhKHtlQ-3erMHexCWtvY8K7sxcXbMJzxGcNf4-0lbMrHNPNKcSVcf_HRDu_BgKirhdY5pR037YaS4xAp4W468OawEFMNydzYVYSpPXP_Azdaj40jXJAWlvghlxuApHv7n7KwlgdMCfLDHoIBUa_S80HxuD919IwpoO42cD3TF7PpdkAVR8KdunTbgTyJZZrfg6JGyV4fcnKnVlcMlFQCxYdfv5NmroBnmfAYBG7LCJcCUqSuFnahvYVbcehvvT1xAzw6Eu2VpO2ERRggFY7KBQT638zJQavwchc799vrItG-b0ZJRVVqR7xvboE-Mkmx4Y-UFvvLhqA&src-supplier=Texas+Instruments; ComponentLink3URL: https://sigma.octopart.com:443/175570406/technical_drawing/Texas-Instruments-LM4121AIM5-ADJ-NOPB.pdf?src-supplier=Texas+Instruments; ComponentLink3Description: https://sigma.octopart.com:443/175570406/technical_drawing/Texas-Instruments-LM4121AIM5-ADJ-NOPB.pdf?src-supplier=Texas+Instruments; ComponentLink4URL: https://sigma.octopart.com:443/169406034/technical_drawing/Texas-Instruments-LM4121AIM5-ADJ-NOPB.pdf?src-supplier=Texas+Instruments; ComponentLink4Description: https://sigma.octopart.com:443/169406034/technical_drawing/Texas-Instruments-LM4121AIM5-ADJ-NOPB.pdf?src-supplier=Texas+Instruments; ComponentLink5URL: https://sigma.octopart.com:443/155939316/technical_drawing/Texas-Instruments-LM4121AIM5-ADJ-NOPB.pdf?src-supplier=Texas+Instruments; ComponentLink5Description: https://sigma.octopart.com:443/155939316/technical_drawing/Texas-Instruments-LM4121AIM5-ADJ-NOPB.pdf?src-supplier=Texas+Instruments; ComponentLink6URL: https://sigma.octopart.com:443/102331370/technical_drawing/Texas-Instruments-LM4121AIM5-ADJ-NOPB.pdf?src-supplier=Texas+Instruments; ComponentLink6Description: https://sigma.octopart.com:443/102331370/technical_drawing/Texas-Instruments-LM4121AIM5-ADJ-NOPB.pdf?src-supplier=Texas+Instruments; ComponentLink7URL: https://sigma.octopart.com:443/49249325/technical_drawing/Texas-Instruments-LM4121AIM5-ADJ-NOPB.pdf?src-supplier=Texas+Instruments; ComponentLink7Description: https://sigma.octopart.com:443/49249325/technical_drawing/Texas-Instruments-LM4121AIM5-ADJ-NOPB.pdf?src-supplier=Texas+Instruments; ComponentLink8URL: https://datasheet.octopart.com:443/LM4121AIM5-ADJ-NOPB-Texas-Instruments-datasheet-14775671.pdf?src-supplier=Texas+Instruments; ComponentLink8Description: https://datasheet.octopart.com:443/LM4121AIM5-ADJ-NOPB-Texas-Instruments-datasheet-14775671.pdf?src-supplier=Texas+Instruments; ComponentLink9URL: https://datasheet.octopart.com:443/LM4121AIM5-ADJ/NOPB-Texas-Instruments-datasheet-10844271.pdf?src-supplier=Texas+Instruments; ComponentLink9Description: https://datasheet.octopart.com:443/LM4121AIM5-ADJ/NOPB-Texas-Instruments-datasheet-10844271.pdf?src-supplier=Texas+Instruments; ComponentLink10URL: https://datasheet.octopart.com:443/LM4121AIM5-ADJ-NOPB-Texas-Instruments-datasheet-38190892.pdf?src-supplier=Newark; ComponentLink10Description: https://datasheet.octopart.com:443/LM4121AIM5-ADJ-NOPB-Texas-Instruments-datasheet-38190892.pdf?src-supplier=Newark; ComponentLink11URL: https://datasheet.octopart.com:443/LM4121AIM5-ADJ-NOPB-Texas-Instruments-datasheet-21415343.pdf?src-supplier=Newark; ComponentLink11Description: https://datasheet.octopart.com:443/LM4121AIM5-ADJ-NOPB-Texas-Instruments-datasheet-21415343.pdf?src-supplier=Newark; ComponentLink12URL: https://datasheet.octopart.com:443/LM4121AIM5-ADJ-NOPB-Texas-Instruments-datasheet-192323770.pdf?src-supplier=HQonline; ComponentLink12Description: https://datasheet.octopart.com:443/LM4121AIM5-ADJ-NOPB-Texas-Instruments-datasheet-192323770.pdf?src-supplier=HQonline; ComponentLink13URL: https://datasheet.octopart.com:443/LM4121AIM5-ADJ-NOPB-Texas-Instruments-datasheet-10782.pdf?src-supplier=Arrow+Electronics; ComponentLink13Description: https://datasheet.octopart.com:443/LM4121AIM5-ADJ-NOPB-Texas-Instruments-datasheet-10782.pdf?src-supplier=Arrow+Electronics; ComponentLink14URL: https://datasheet.octopart.com:443/LM4121AIM5-ADJ-NOPB-Texas-Instruments-datasheet-32985724.pdf?src-supplier=Farnell; ComponentLink14Description: https://datasheet.octopart.com:443/LM4121AIM5-ADJ-NOPB-Texas-Instruments-datasheet-32985724.pdf?src-supplier=Farnell; ComponentLink15URL: https://datasheet.octopart.com:443/LM4121AIM5-ADJ-NOPB-Texas-Instruments-datasheet-164415095.pdf?src-supplier=SHENGYU+ELECTRONICS; ComponentLink15Description: https://datasheet.octopart.com:443/LM4121AIM5-ADJ-NOPB-Texas-Instruments-datasheet-164415095.pdf?src-supplier=SHENGYU+ELECTRONICS; ComponentLink16URL: http://sigma.octopart.com:80/reach_statement/Texas-Instruments-company-64.pdf?src-supplier=Compliance+Statements; ComponentLink16Description: http://sigma.octopart.com:80/reach_statement/Texas-Instruments-company-64.pdf?src-supplier=Compliance+Statements; ComponentLink17URL: http://sigma.octopart.com:80/conflict_mineral_statement/Texas-Instruments-company-63.pdf?src-supplier=Compliance+Statements; ComponentLink17Description: http://sigma.octopart.com:80/conflict_mineral_statement/Texas-Instruments-company-63.pdf?src-supplier=Compliance+Statements
footprint 5-Lead SOT-23
pins: 1 ADJ (in), 2 GND (power), 3 EN (in), 4 IN (power), 5 OUT (power)